# Altium footprint library LED TH.pcblib: 1 footprints
Each footprint in its own frame and in the unit in brackets; x right, y up, seen from the top. Pads: shape width x height; smd on the part's side, far side on the other; paste and mask are expansions set on the pad; w line width, h text height; cw(c..) or ccw(c..) is an arc to the next point about the centre after c.
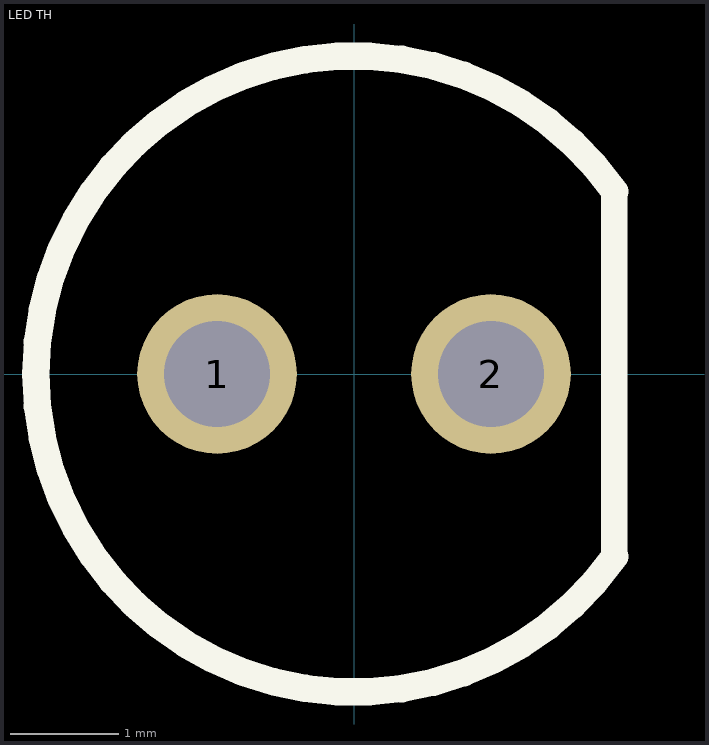
[diagram p0: the footprint, top view; thin cyan lines are the x and y axes]

## LED TH [mm]
pads (2):
  round 1.48 hole 0.98: 1(-1.27,0) 2(1.27,0)
Top Overlay:
  lines w0.25: 2.413,-1.651 2.413,1.651
  lines w0.254: 2.416,-1.692 cw(c0,0) 2.416,1.692
3D body "LED 5mm.STEP": height 8.8, standoff -27, extent -3,-3 2.5,3